# Altium footprint library 3pin jst.PcbLib: 1 footprints
Each footprint in its own frame and in the unit in brackets; x right, y up, seen from the top. Pads: shape width x height; smd on the part's side, far side on the other; paste and mask are expansions set on the pad; w line width, h text height; cw(c..) or ccw(c..) is an arc to the next point about the centre after c.
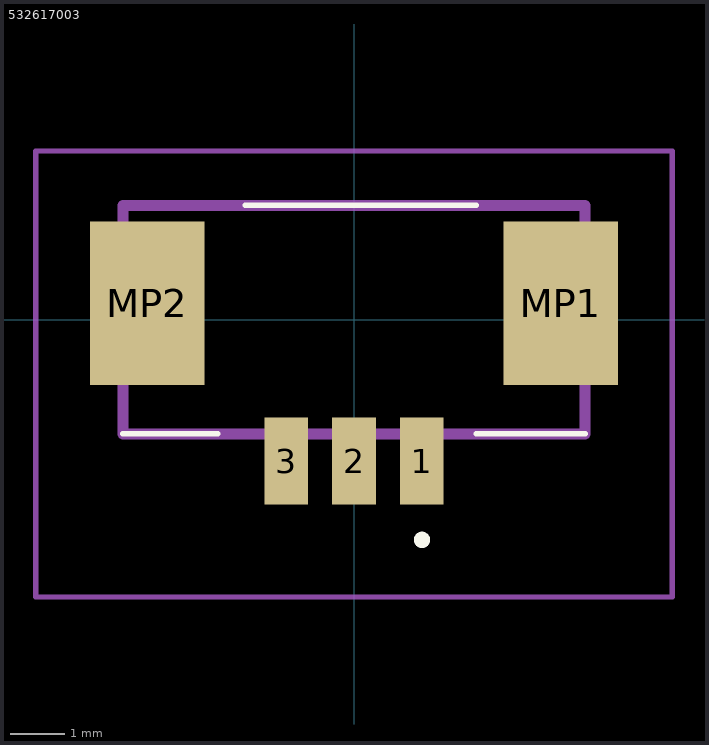
[diagram p0: the footprint, top view; thin cyan lines are the x and y axes]

## 532617003 [mm]
pads (5):
  rect 0.8x1.6 smd: 1(1.25,-2.6) 2(0,-2.6) 3(-1.25,-2.6)
  rect 2.1x3 smd: MP1(3.8,0.3) MP2(-3.8,0.3)
Top Overlay:
  lines w0.1: -4.25,-2.1 -2.5,-2.1 ; -2,2.1 2.25,2.1 ; 2.25,-2.1 4.25,-2.1
  lines w0.2: 1.25,-4.1 ccw(c1.25,-4.05) 1.25,-4 ; 1.25,-4.1 cw(c1.25,-4.05) 1.25,-4 ; 1.25,-4.1 ccw(c1.25,-4.05) 1.25,-4
Mechanical 15:
  lines w0.2: -4.25,-2.1 4.25,-2.1 4.25,2.1 -4.25,2.1 -4.25,-2.1
Mechanical 20:
  lines w0.1: -5.85,-5.1 5.85,-5.1 5.85,3.1 -5.85,3.1 -5.85,-5.1
3D body "53261-7003.stp": height 3.41, standoff 0.01, extent -4.45,-3.209 4.45,1.991